# EAGLE library part DSA-394539 (library Webmaster442)
• BOTTOM DP and COMMA • Grey face colour, White segment colour • Fast reliable interconnection and mounting system without the need for a PCB • Unique interlocking facility for accurate positioning of adjacent displays
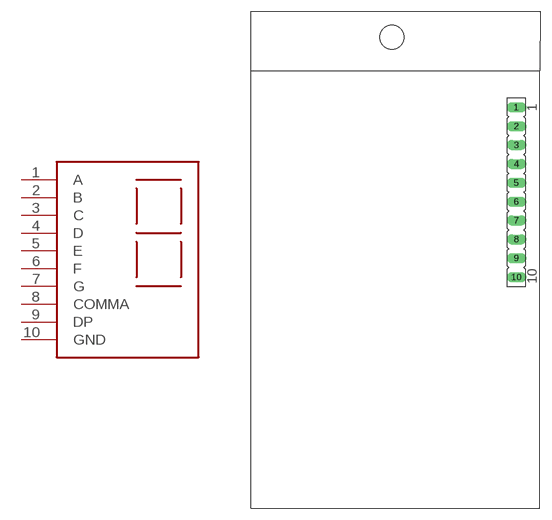
[diagram p18: symbol with the pads of DSA-394539; footprint DSA-394539]

Designator prefix -

## DSA-394539  [DSA-394539]
1  A
2  B
3  C
4  D
5  E
6  F
7  G
8  COMMA
9  DP
10  GND

## Footprint DSA-394539 (pad centres in mm)
drill 0.813 long: 1 16.27,24.53; 2 16.27,21.99; 3 16.27,19.45; 4 16.27,16.91; 5 16.27,14.37; 6 16.27,11.83; 7 16.27,9.29; 8 16.27,6.75; 9 16.27,4.21; 10 16.27,1.67
hole 3.2 at -0.5,34